# Altium footprint library STLINK-V3.PcbLib: 1 footprints
Each footprint in its own frame and in the unit in brackets; x right, y up, seen from the top. Pads: shape width x height; smd on the part's side, far side on the other; paste and mask are expansions set on the pad; w line width, h text height; cw(c..) or ccw(c..) is an arc to the next point about the centre after c.
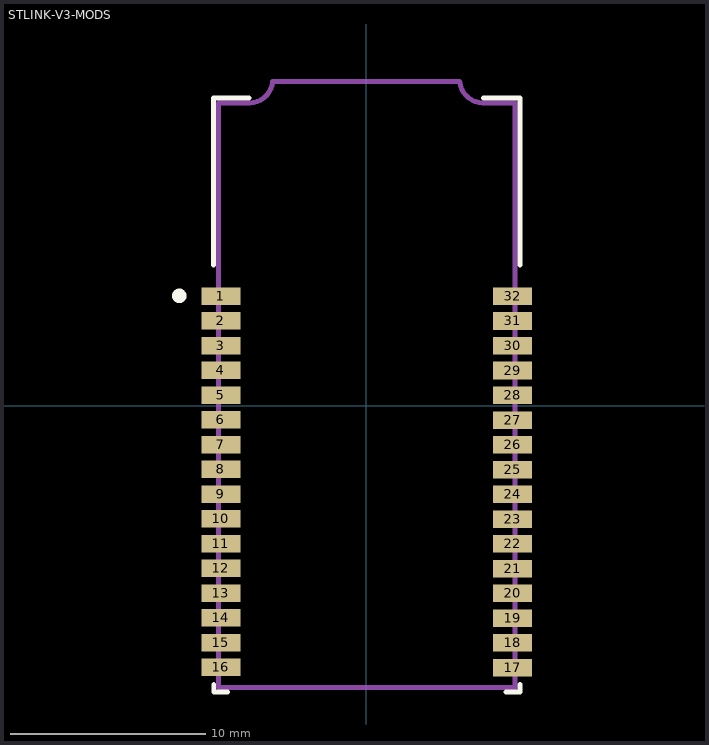
[diagram p0: the footprint, top view; thin cyan lines are the x and y axes]

## STLINK-V3-MODS [mm] "STLINK-V3-MODS"
height 3
pads (32):
  rect 2x0.9 smd: 1(-7.45,5.64) 2(-7.45,4.37) 3(-7.45,3.1) 4(-7.45,1.83) 5(-7.45,0.56) 6(-7.45,-0.71) 7(-7.45,-1.98) 8(-7.45,-3.25) 9(-7.45,-4.52) 10(-7.45,-5.79) 11(-7.45,-7.06) 12(-7.45,-8.33) 13(-7.45,-9.6) 14(-7.45,-10.87) 15(-7.45,-12.14) 16(-7.45,-13.41) 17(7.51,-13.42) 18(7.51,-12.15) 19(7.51,-10.88) 20(7.51,-9.61) 21(7.51,-8.34) 22(7.51,-7.07) 23(7.51,-5.8) 24(7.51,-4.53) 25(7.51,-3.26) 26(7.51,-1.99) 27(7.51,-0.72) 28(7.51,0.55) 29(7.51,1.82) 30(7.51,3.09) 31(7.51,4.36) 32(7.51,5.63)
Top Overlay:
  circle w0.4: c-9.59,5.65 r0.17
  lines w0.254: -7.826,7.24 -7.826,15.79 -6.015,15.792 ; -7.82,-14.28 -7.82,-14.68 -7.12,-14.68 ; 6.02,15.796 7.88,15.79 ; 7.18,-14.68 7.88,-14.68 7.88,-14.28 ; 7.886,7.23 7.886,15.795
Mechanical 13:
  lines w0.254: -7.57,5.17 -7.57,15.08 ; -5.971,15.54 -7.57,15.54 -7.57,-14.43 7.63,-14.43 7.63,15.54 5.975,15.54 ; -5.971,15.542 ccw(c-5.999,16.75) -4.8,16.6 ; -4.8,16.64 4.8,16.64 ; 4.804,16.604 ccw(c6.004,16.754) 5.975,15.546
3D body "STLINK-V3MODS.step": height 4.5, standoff 0.03, extent -7.62,-14.44 7.62,17.232